# EAGLE library part AT25M01 (library MicrochipTechnology)
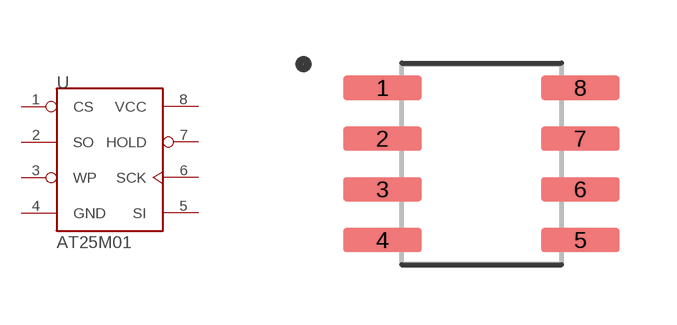
[diagram p0: symbol with the pads of SOIC127P600X175-8N; footprint SOIC127P600X175-8N]

Designator prefix -

## AT25M01  [SOIC127P600X175-8N]
1  CS  in
2  SO  out
3  WP  in
4  GND  pwr
5  SI  in
6  SCK
7  HOLD  in
8  VCC  pwr

## Footprint SOIC127P600X175-8N (pad centres in mm)
smd 1.97 x 0.6: 1 -2.475,1.905; 2 -2.475,0.635; 3 -2.475,-0.635; 4 -2.475,-1.905; 5 2.475,-1.905; 6 2.475,-0.635; 7 2.475,0.635; 8 2.475,1.905